# EAGLE library part M20-9990645 (library SamacSys_Parts)
M20 Header, Pin, Sil, Vertical, 6 W HARWIN M20 Series, 2.54mm Pitch 6 Way 1 Row Straight Pin Header, Through Hole, Solder Termination Source: Datasheet <https://cdn.harwin.com/pdfs/M20-999.pdf>
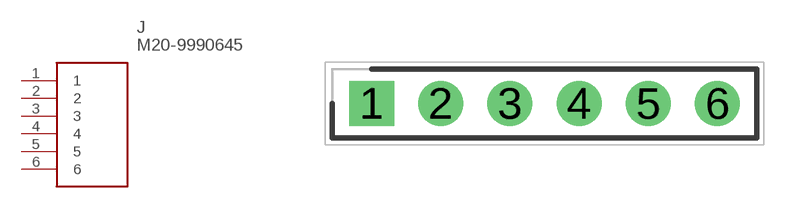
[diagram p5: symbol with the pads of HDRV6W64P0X254_1X6_1524X254X86; footprint HDRV6W64P0X254_1X6_1524X254X86]

Designator prefix J

## M20-9990645 (Description: M20 Header, Pin, Sil, Vertical, 6 W HARWIN M20 Series, 2.54mm Pitch 6 Way 1 Row Straight Pin Header, Through Hole, Solder Termination; Height: 8.64mm; Manufacturer_Name: Harwin; Manufacturer_Part_Number: M20-9990645; Mouser_Part_Number: 855-M20-9990645; Mouser_Price-Stock: https://www.mouser.co.uk/ProductDetail/Harwin/M20-9990645?qs=Jph8NoUxIfWe7BJQOhiVRg%3D%3D)  [HDRV6W64P0X254_1X6_1524X254X86]
1  1
2  2
3  3
4  4
5  5
6  6

## Footprint HDRV6W64P0X254_1X6_1524X254X86 (pad centres in mm)
M20-9990646
drill 1.1 pad 1.65 square: 1 0,0
drill 1.1 pad 1.65: 2 2.54,0; 3 5.08,0; 4 7.62,0; 5 10.16,0; 6 12.7,0